# EAGLE library part AD536 (library IC)
http://search.digikey.com/scripts/DkSearch/dksus.dll?Detail&name=AD536AJQ-ND
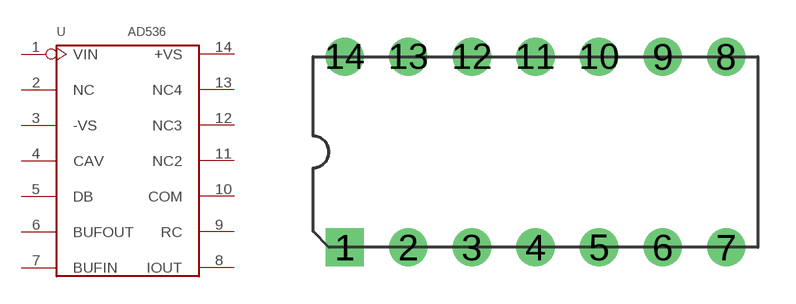
[diagram p4: symbol with the pads of DIP14; footprint DIP14]

Designator prefix U

## AD536  [DIP14]
1  VIN
2  NC
3  -VS
4  CAV
5  DB
6  BUFOUT
7  BUFIN
8  IOUT
9  RC
10  COM
11  NC2
12  NC3
13  NC4
14  +VS

## Footprint DIP14 (pad centres in mm)
drill 0.813 pad 1.524 square: 1 -7.493,-3.81
drill 0.813 pad 1.524: 2 -4.953,-3.81; 3 -2.413,-3.81; 4 0.127,-3.81; 5 2.667,-3.81; 6 5.207,-3.81; 7 7.747,-3.81; 8 7.747,3.81; 9 5.207,3.81; 10 2.667,3.81; 11 0.127,3.81; 12 -2.413,3.81; 13 -4.953,3.81; 14 -7.493,3.81